# Altium schematic symbol library APTF1616SEEZGQBDC.SchLib: 1 symbol
Pins are listed as number, name and electrical type; pins without a type are passive.

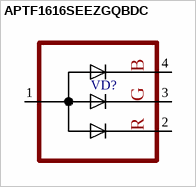
[diagram p0: symbol APTF1616SEEZGQBDC]

## APTF1616SEEZGQBDC
designator VD?
pins: 1, 2, 3, 4
text: B; G; R